# Altium schematic symbol library jump-0r-smd.SCHLIB: 3 symbols
Pins are listed as number, name and electrical type; pins without a type are passive.

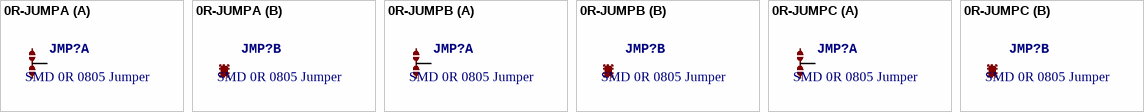
[diagram p0: symbols 0R-JUMPA to 0R-JUMPC]

## 0R-JUMPA
designator JMP?, comment SMD 0R 0805 Jumper
footprint A0R-JMP
part A pins: 1, 2, 3

## 0R-JUMPB
designator JMP?, comment SMD 0R 0805 Jumper
footprint B0R-JMP
part A pins: 1, 2, 3

## 0R-JUMPC
designator JMP?, comment SMD 0R 0805 Jumper
footprint C0R-JMP
part A pins: 1, 2, 3